# Altium footprint library IC_LM5155DSSR.PcbLib: 1 footprints
Each footprint in its own frame and in the unit in brackets; x right, y up, seen from the top. Pads: shape width x height; smd on the part's side, far side on the other; paste and mask are expansions set on the pad; w line width, h text height; cw(c..) or ccw(c..) is an arc to the next point about the centre after c.
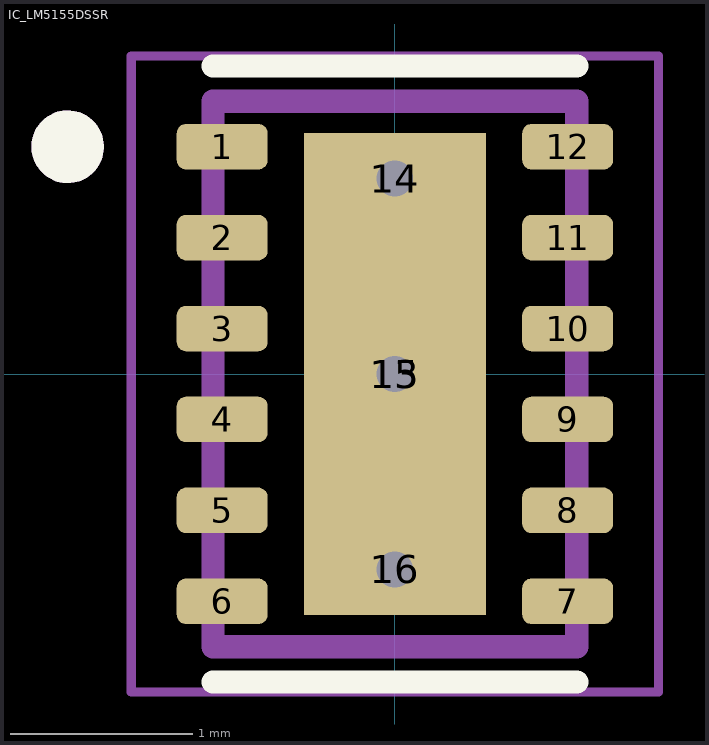
[diagram p0: the footprint, top view; thin cyan lines are the x and y axes]

## IC_LM5155DSSR [mm]
height 0.8
pads (16):
  rrect40% 0.5x0.25 smd mask+0.05: 1(-0.95,1.25) 2(-0.95,0.75) 3(-0.95,0.25) 4(-0.95,-0.25) 5(-0.95,-0.75) 6(-0.95,-1.25) 7(0.95,-1.25) 8(0.95,-0.75) 9(0.95,-0.25) 10(0.95,0.25) 11(0.95,0.75) 12(0.95,1.25)
  rect 1x2.65 smd paste-2 mask+0.05: 13(0,0)
  round 0.4 hole 0.2 mask+0: 14(0,1.075) 15(0,0) 16(0,-1.075)
Top Overlay:
  circle w0.2: c-1.8,1.25 r0.1
  lines w0.127: -1,-1.695 1,-1.695 ; -1,1.695 1,1.695
Top Paste:
  region: 0.475,-1.27 -0.475,-1.27 -0.475,-0.1 0.475,-0.1
  region: 0.475,0.1 -0.475,0.1 -0.475,1.27 0.475,1.27
Assembly Top:
  circle w0.2: c-1.8,1.25 r0.1
  lines w0.127: -1,-1.5 1,-1.5 1,1.5 -1,1.5 -1,-1.5
Top Courtyard:
  lines w0.05: -1.45,-1.75 1.45,-1.75 1.45,1.75 -1.45,1.75 -1.45,-1.75
3D body "step_temp.STEP": height 0.8, standoff 0, extent -1,-1.5 1,1.5